# EAGLE library part LM25007 (library Schaltregler - LM25007)
Name des Bauteiles: -->LM2500 Daten:Integrated 0.74Ω N-Channel MOSFET Switch, Guaranteed 0.5A Output Current, Ultra-Fast Transient Response, Up to 800kHz Operation, No Control Loop Compensation Required, Vin Feed Forward Provides Constant response is achieved through the use of a constant Operating Frequency, 2% Accurate 2.5V Feedback from -40°C to feature provides an almost constant operating 125°C, Highly Efficient Operation, Intelligent Current Limit Protection, External Shutdown Control, Thermal Shutdown, VSSOP and Thermally Enhanced WSON may be set from 2.5V to >30V. To improve efficiency Packages Artikelnummer:#049038 Datenblatt:Siehe Hesch Suche ! __________________________________________ generated by Eagle Description Tool am : 05.05.2014 09:44:02 erstellt von: hm
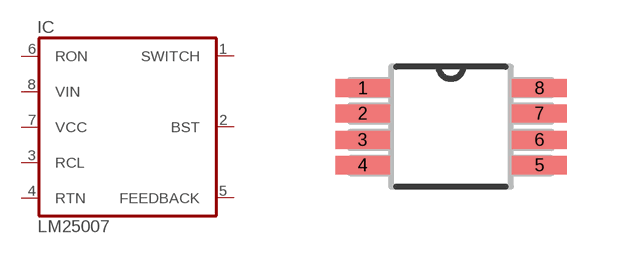
[diagram p0: symbol with the pads of VSSOP8; footprint VSSOP8]

Designator prefix IC

## LM25007MM/NOPB  [VSSOP8]
1  SWITCH  out
2  BST  pas
3  RCL  in
4  RTN  pas
5  FEEDBACK  in
6  RON  in
7  VCC  pwr
8  VIN  pwr

## Footprint VSSOP8 (pad centres in mm)
smd 1.372 x 0.457: 1 -2.21,0.965; 2 -2.21,0.33; 3 -2.21,-0.33; 4 -2.21,-0.965; 5 2.21,-0.965; 6 2.21,-0.33; 7 2.21,0.33; 8 2.21,0.965